# Altium footprint library PCB1.PcbLib: 2 footprints
Each footprint in its own frame and in the unit in brackets; x right, y up, seen from the top. Pads: shape width x height; smd on the part's side, far side on the other; paste and mask are expansions set on the pad; w line width, h text height; cw(c..) or ccw(c..) is an arc to the next point about the centre after c.
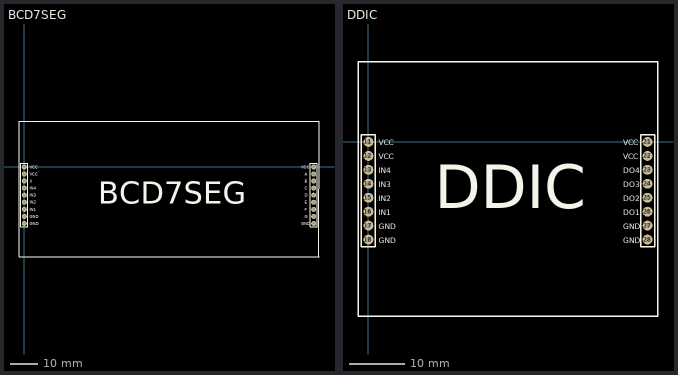
[diagram p0: the footprints below, top view; thin cyan lines are the x and y axes]

## BCD7SEG [mm]
pads (18):
  round 1.8 hole 0.9: 101(0,0) 102(0,-2.54) 103(0,-5.08) 104(0,-7.62) 105(0,-10.16) 106(0,-12.7) 107(0,-15.24) 108(0,-17.78) 109(0,-20.32) 201(104.14,0) 202(104.14,-2.54) 203(104.14,-5.08) 204(104.14,-7.62) 205(104.14,-10.16) 206(104.14,-12.7) 207(104.14,-15.24) 208(104.14,-17.78) 209(104.14,-20.32)
Top Overlay:
  lines w0.254: -1.905,-32.385 -1.905,16.51 106.045,16.51 106.045,-32.385 -1.905,-32.385 ; -1.27,-21.59 1.27,-21.59 1.27,1.27 -1.27,1.27 -1.27,-21.59 ; 102.87,-21.59 105.41,-21.59 105.41,1.27 102.87,1.27 102.87,-21.59
  text "GND" at 99.695,-20.955 h1
  text "X" at 1.905,-5.715 h1
  text "IN4" at 1.905,-8.255 h1
  text "IN3" at 1.905,-10.795 h1
  text "IN2" at 1.905,-13.335 h1
  text "IN1" at 1.905,-15.875 h1
  text "GND" at 1.905,-18.415 h1
  text "VCC" at 1.905,-3.175 h1
  text "VCC" at 1.905,-0.635 h1
  text "G" at 100.965,-18.415 h1
  text "F" at 100.965,-15.875 h1
  text "E" at 100.965,-13.335 h1
  text "D" at 100.965,-10.795 h1
  text "C" at 100.965,-8.255 h1
  text "B" at 100.965,-5.715 h1
  text "A" at 100.965,-3.175 h1
  text "VCC" at 99.695,-0.635 h1
  text "BCD7SEG" at 26.67,-13.335 h8
  text "GND" at 1.905,-20.955 h1
3D body "PCB_V0.step": height 7.5, standoff -4.21, extent -1.905,-32.385 106.045,16.51

## DDIC [mm]
pads (16):
  round 1.8 hole 0.9: 11(0,0) 12(0,-2.54) 13(0,-5.08) 14(0,-7.62) 15(0,-10.16) 16(0,-12.7) 17(0,-15.24) 18(0,-17.78) 21(50.8,0) 22(50.8,-2.54) 23(50.8,-5.08) 24(50.8,-7.62) 25(50.8,-10.16) 26(50.8,-12.7) 27(50.8,-15.24) 28(50.8,-17.78)
Top Overlay:
  lines w0.254: -1.905,-31.75 52.705,-31.75 52.705,14.605 -1.905,14.605 -1.905,-31.75 ; -1.27,-19.05 1.27,-19.05 1.27,1.27 -1.27,1.27 -1.27,-19.05 ; 49.53,-19.05 52.07,-19.05 52.07,1.27 49.53,1.27 49.53,-19.05
  text "IN4" at 1.905,-5.715 h1
  text "IN3" at 1.905,-8.255 h1
  text "IN2" at 1.905,-10.795 h1
  text "IN1" at 1.905,-13.335 h1
  text "GND" at 1.905,-15.875 h1
  text "GND" at 1.905,-18.415 h1
  text "VCC" at 1.905,-3.175 h1
  text "VCC" at 1.905,-0.635 h1
  text "GND" at 46.355,-18.415 h1
  text "GND" at 46.355,-15.875 h1
  text "DO1" at 46.355,-13.335 h1
  text "DO2" at 46.355,-10.795 h1
  text "DO3" at 46.355,-8.255 h1
  text "DO4" at 46.355,-5.715 h1
  text "VCC" at 46.355,-3.175 h1
  text "VCC" at 46.355,-0.635 h1
  text "DDIC" at 12.065,-12.065 h8
3D body "PCB1.step": height 7.5, standoff -4.21, extent -1.905,-31.75 52.705,14.605